# Altium schematic symbol library 74439346100.SchLib: 1 symbol
Pins are listed as number, name and electrical type; pins without a type are passive.

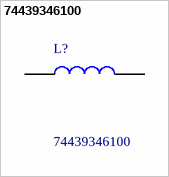
[diagram p0: symbol 74439346100]

## 74439346100
designator L?
SMD Power Inductor 6060 10uH R0265; Manufacturer_Name: Wurth Elektronik; Geometry.Height: 6.1mm; Manufacturer_Part_Number: 74439346100; Mouser Part Number: 710-74439346100; Mouser Price/Stock: https://www.mouser.co.uk/ProductDetail/Wurth-Elektronik/74439346100?qs=NSAOzM2zc%2FVyLWPfcgBqKw%3D%3D; Arrow Part Number: *; Arrow Price/Stock: *; Datasheet Link: https://www.we-online.de/katalog/datasheet/74439346100.pdf
footprint 74439346100
pins: 1, 2